# Altium integrated library Inductors.IntLib: 5 symbols
Pins are listed as number, name and electrical type; pins without a type are passive.

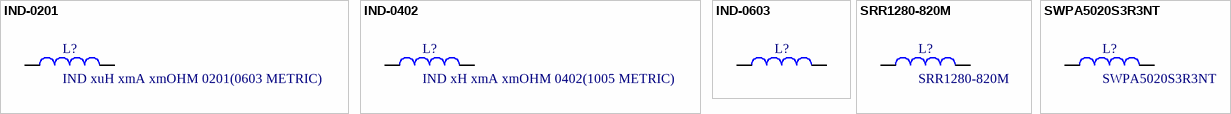
[diagram p0: symbols IND-0201 to SWPA5020S3R3NT]

## IND-0201
designator L?, comment IND xuH xmA xmOHM 0201(0603 METRIC)
Inductance: *; DC Current: *; Frequency: *; Self Resonate Frequency: *; Package: 0201(0603 METRIC)
footprint 0201(0603 METRIC)
pins: 1, 2

## IND-0402
designator L?, comment IND xH xmA xmOHM 0402(1005 METRIC)
Inductance: *; Impedance: *; Package: 0402; DC Current: *; Frequency: *
footprint 0402(1005 METRIC)
pins: 1, 2

## IND-0603
designator L?, comment IND xuH xmA xmOHM 0603(1608 METRIC)  (value not drawn)
Manufacturer Part Number: LQM18PN3R3MFRL; Package: 0603; Inductance: *; Manufacturer: *; Vendor: *; Vendor Part Number: *; DC Current: *; Frequency: *; Impedance: *
footprint 0603(1608 METRIC)
pins: 1, 2

## SRR1280-820M
designator L?
82 µH Shielded Drum Core, Wirewound Inductor 2.3 A 130mOhm Max Nonstandard; Manufacturer: Bourns Inc.; Inductance: 82uH; Manufacturer Part Number: SRR1280-820M; Package: Nonstandard
footprint IND_SRR1280-820M
pins: 1, 2

## SWPA5020S3R3NT
designator L?
3.3 µH Shielded Drum Core, Wirewound Inductor 2.5 A 56mOhm Max Nonstandard; Manufacturer: *; Manufacturer Part Number: *; Package: *; Vendor: *; Vendor Part Number: *
footprint IND5mm x5mm
pins: 1, 2